# EAGLE library part KSZ8851SNL (library balto)
KSZ8851SNL/SNLI
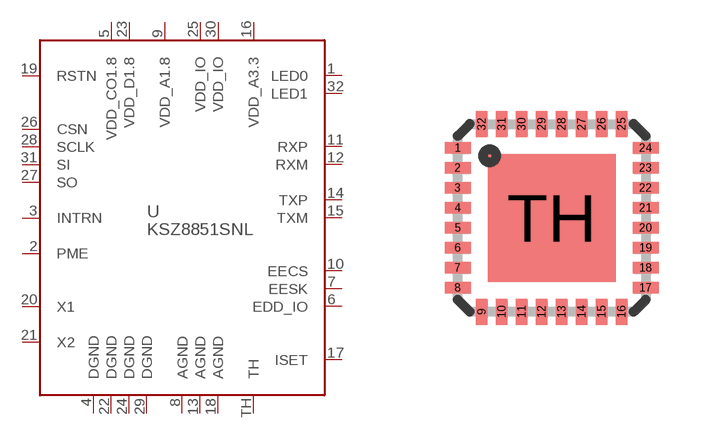
[diagram p16: symbol with the pads of MLF32-TH; footprint MLF32-TH]

Designator prefix U

## KSZ8851SNL  [MLF32-TH]
1  LED0
2  PME
3  INTRN
4  DGND
5  VDD_CO1.8
6  EDD_IO
7  EESK
8  AGND
9  VDD_A1.8
10  EECS
11  RXP
12  RXM
13  AGND
14  TXP
15  TXM
16  VDD_A3.3
17  ISET
18  AGND
19  RSTN
20  X1
21  X2
22  DGND
23  VDD_D1.8
24  DGND
25  VDD_IO
26  CSN
27  SO
28  SCLK
29  DGND
30  VDD_IO
31  SI
32  LED1
TH  TH

## Footprint MLF32-TH (pad centres in mm)
32M1-A Micro Lead Frame package (MLF)
smd 0.65 x 0.29: 1 -2.35,1.75; 2 -2.35,1.25; 3 -2.35,0.75; 4 -2.35,0.25; 5 -2.35,-0.25; 6 -2.35,-0.75; 7 -2.35,-1.25; 8 -2.35,-1.75; 17 2.35,-1.75; 18 2.35,-1.25; 19 2.35,-0.75; 20 2.35,-0.25; 21 2.35,0.25; 22 2.35,0.75; 23 2.35,1.25; 24 2.35,1.75
smd 0.29 x 0.65: 9 -1.75,-2.35; 10 -1.25,-2.35; 11 -0.75,-2.35; 12 -0.25,-2.35; 13 0.25,-2.35; 14 0.75,-2.35; 15 1.25,-2.35; 16 1.75,-2.35; 25 1.75,2.35; 26 1.25,2.35; 27 0.75,2.35; 28 0.25,2.35; 29 -0.25,2.35; 30 -0.75,2.35; 31 -1.25,2.35; 32 -1.75,2.35
smd 3.2 x 3.2: TH 0,0